# EAGLE library part CONNECTOR16X1_1-16 (library harrison)
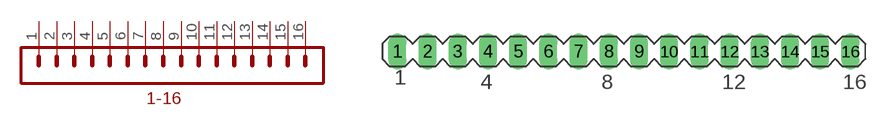
[diagram p13: symbol with the pads of CONNECTOR16X1_1-16; footprint CONNECTOR16X1_1-16]

Designator prefix -

## CONNECTOR16X1_1-16  [CONNECTOR16X1_1-16]
1  P$1  pas
2  P$2  pas
3  P$3  pas
4  P$4  pas
5  P$5  pas
6  P$6  pas
7  P$7  pas
8  P$8  pas
9  P$9  pas
10  P$10  pas
11  P$11  pas
12  P$12  pas
13  P$13  pas
14  P$14  pas
15  P$15  pas
16  P$16  pas

## Footprint CONNECTOR16X1_1-16 (pad centres in mm)
drill 1.016 long: 1 -19.05,0; 2 -16.51,0; 3 -13.97,0; 4 -11.43,0; 5 -8.89,0; 6 -6.35,0; 7 -3.81,0; 8 -1.27,0; 9 1.27,0; 10 3.81,0; 11 6.35,0; 12 8.89,0; 13 11.43,0; 14 13.97,0; 15 16.51,0; 16 19.05,0